# EAGLE library part PSOC_52LP_68QFN (library 328p_mak3rspace)
CY8C5288LTI PSOC5LP MCU Datasheet SparkFun Products ProSoC Micro () Prototype in process - do keep!
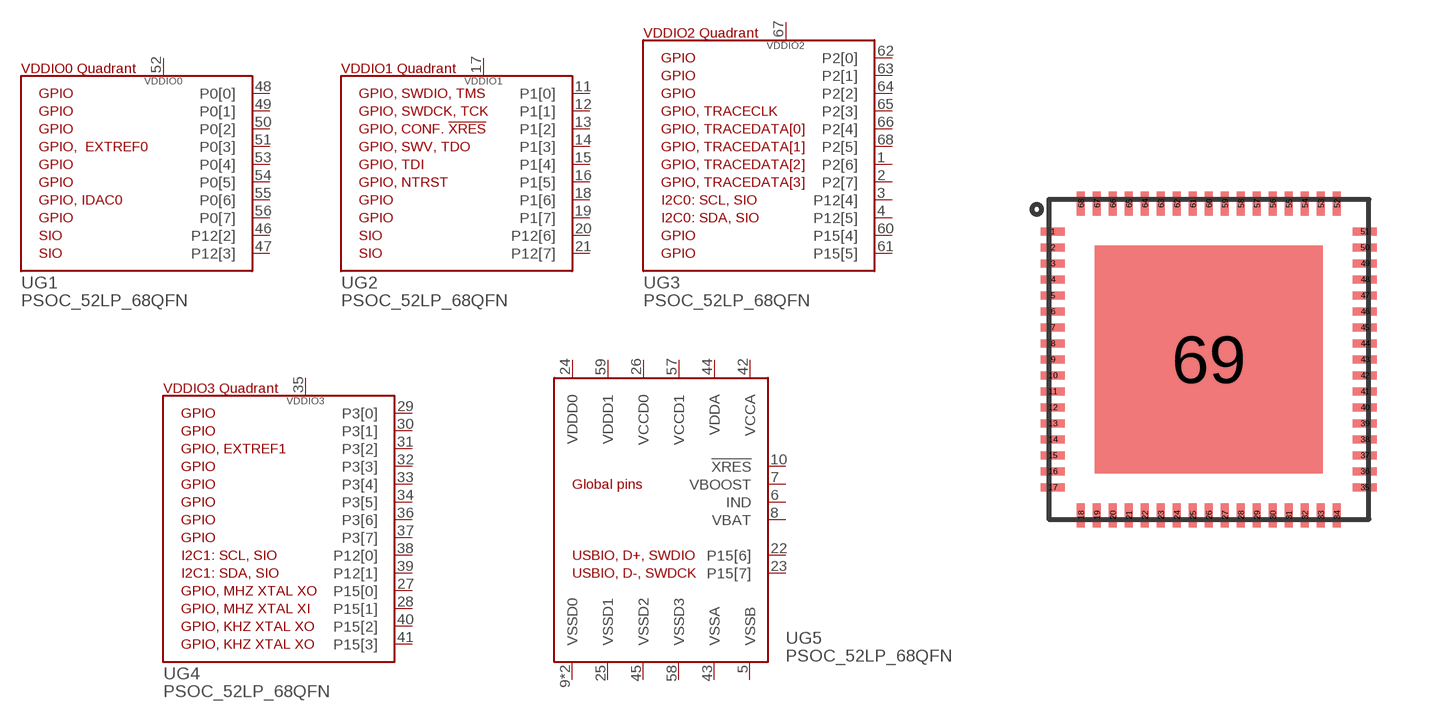
[diagram p3: symbol with the pads of QFN-68; footprint QFN-68]

Designator prefix U; gates G1=CY8C52LP_68QFN_VDDIO0 G2=CY8C52LP_68QFN_VDDIO1 G3=CY8C52LP_68QFN_VDDIO2 G5=CY8C52LP_68QFN_VGLOBAL G4=CY8C52LP_68QFN_VDDIO3

## PSOC_52LP_68QFN (PROD_ID: IC-13261; VALUE: CY8C5288LTI)  [QFN-68]
1  G3:P2[6]
2  G3:P2[7]
3  G3:P12[4]
4  G3:P12[5]
5  G5:VSSB
6  G5:IND
7  G5:VBOOST
8  G5:VBAT
9  G5:VSSD0
10  G5:!XRES
11  G2:P1[0]
12  G2:P1[1]
13  G2:P1[2]
14  G2:P1[3]
15  G2:P1[4]
16  G2:P1[5]
17  G2:VDDIO1
18  G2:P1[6]
19  G2:P1[7]
20  G2:P12[6]
21  G2:P12[7]
22  G5:P15[6]
23  G5:P15[7]
24  G5:VDDD0
25  G5:VSSD1
26  G5:VCCD0
27  G4:P15[0]
28  G4:P15[1]
29  G4:P3[0]
30  G4:P3[1]
31  G4:P3[2]
32  G4:P3[3]
33  G4:P3[4]
34  G4:P3[5]
35  G4:VDDIO3
36  G4:P3[6]
37  G4:P3[7]
38  G4:P12[0]
39  G4:P12[1]
40  G4:P15[2]
41  G4:P15[3]
42  G5:VCCA
43  G5:VSSA
44  G5:VDDA
45  G5:VSSD2
46  G1:P12[2]
47  G1:P12[3]
48  G1:P0[0]
49  G1:P0[1]
50  G1:P0[2]
51  G1:P0[3]
52  G1:VDDIO0
53  G1:P0[4]
54  G1:P0[5]
55  G1:P0[6]
56  G1:P0[7]
57  G5:VCCD1
58  G5:VSSD3
59  G5:VDDD1
60  G3:P15[4]
61  G3:P15[5]
62  G3:P2[0]
63  G3:P2[1]
64  G3:P2[2]
65  G3:P2[3]
66  G3:P2[4]
67  G3:VDDIO2
68  G3:P2[5]
69  G5:VSSD0

## Footprint QFN-68 (pad centres in mm)
smd 0.6 x 0.2: 1 -3.9,3.2; 2 -3.9,2.8; 3 -3.9,2.4; 4 -3.9,2; 5 -3.9,1.6; 6 -3.9,1.2; 7 -3.9,0.8; 8 -3.9,0.4; 9 -3.9,0; 10 -3.9,-0.4; 11 -3.9,-0.8; 12 -3.9,-1.2; 13 -3.9,-1.6; 14 -3.9,-2; 15 -3.9,-2.4; 16 -3.9,-2.8; 17 -3.9,-3.2; 35 3.9,-3.2; 36 3.9,-2.8; 37 3.9,-2.4; 38 3.9,-2; 39 3.9,-1.6; 40 3.9,-1.2; 41 3.9,-0.8; 42 3.9,-0.4; 43 3.9,0; 44 3.9,0.4; 45 3.9,0.8; 46 3.9,1.2; 47 3.9,1.6; 48 3.9,2; 49 3.9,2.4; 50 3.9,2.8; 51 3.9,3.2
smd 0.2 x 0.6: 18 -3.2,-3.9; 19 -2.8,-3.9; 20 -2.4,-3.9; 21 -2,-3.9; 22 -1.6,-3.9; 23 -1.2,-3.9; 24 -0.8,-3.9; 25 -0.4,-3.9; 26 0,-3.9; 27 0.4,-3.9; 28 0.8,-3.9; 29 1.2,-3.9; 30 1.6,-3.9; 31 2,-3.9; 32 2.4,-3.9; 33 2.8,-3.9; 34 3.2,-3.9; 52 3.2,3.9; 53 2.8,3.9; 54 2.4,3.9; 55 2,3.9; 56 1.6,3.9; 57 1.2,3.9; 58 0.8,3.9; 59 0.4,3.9; 60 0,3.9; 61 -0.4,3.9; 62 -0.8,3.9; 63 -1.2,3.9; 64 -1.6,3.9; 65 -2,3.9; 66 -2.4,3.9; 67 -2.8,3.9; 68 -3.2,3.9
smd 5.7 x 5.7: 69 0,0